# Altium footprint library SSW-126-01-G-D.PcbLib: 1 footprints
Each footprint in its own frame and in the unit in brackets; x right, y up, seen from the top. Pads: shape width x height; smd on the part's side, far side on the other; paste and mask are expansions set on the pad; w line width, h text height; cw(c..) or ccw(c..) is an arc to the next point about the centre after c.
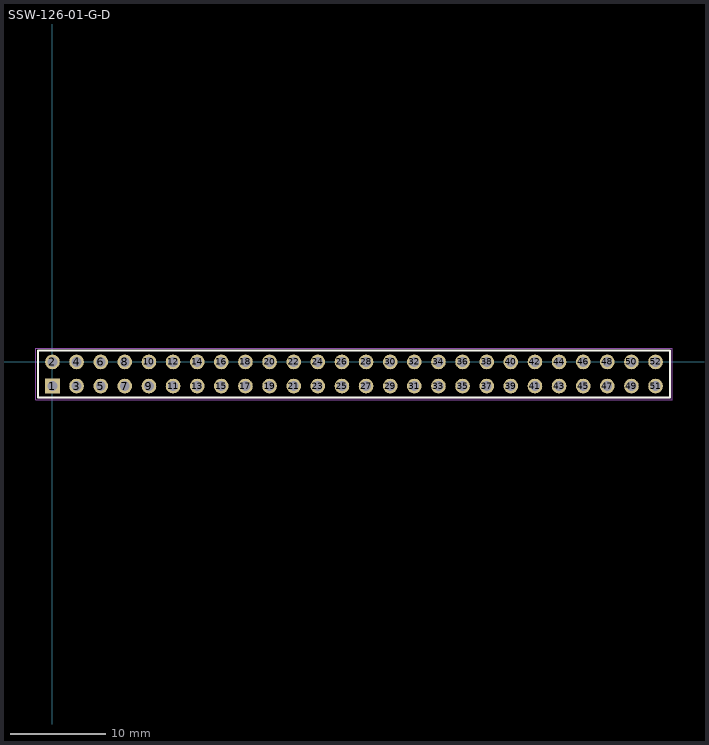
[diagram p0: the footprint, top view; thin cyan lines are the x and y axes]

## SSW-126-01-G-D [mm] "Elevated Socket, 2x26 Pins, Vertical, 2.54mm Pitch, Female"
height 8.51
pads (52):
  rect 1.55x1.55 hole 1.02: 1(0,-2.54)
  round 1.55 hole 1.02: 2(0,0) 3(2.54,-2.54) 4(2.54,0) 5(5.08,-2.54) 6(5.08,0) 7(7.62,-2.54) 8(7.62,0) 9(10.16,-2.54) 10(10.16,0) 11(12.7,-2.54) 12(12.7,0) 13(15.24,-2.54) 14(15.24,0) 15(17.78,-2.54) 16(17.78,0) 17(20.32,-2.54) 18(20.32,0) 19(22.86,-2.54) 20(22.86,0) 21(25.4,-2.54) 22(25.4,0) 23(27.94,-2.54) 24(27.94,0) 25(30.48,-2.54) 26(30.48,0) 27(33.02,-2.54) 28(33.02,0) 29(35.56,-2.54) 30(35.56,0) 31(38.1,-2.54) 32(38.1,0) 33(40.64,-2.54) 34(40.64,0) 35(43.18,-2.54) 36(43.18,0) 37(45.72,-2.54) 38(45.72,0) 39(48.26,-2.54) 40(48.26,0) 41(50.8,-2.54) 42(50.8,0) 43(53.34,-2.54) 44(53.34,0) 45(55.88,-2.54) 46(55.88,0) 47(58.42,-2.54) 48(58.42,0) 49(60.96,-2.54) 50(60.96,0) 51(63.5,-2.54) 52(63.5,0)
Top Overlay:
  lines w0.2: -1.525,-3.745 65.025,-3.745 65.025,1.205 -1.525,1.205 -1.525,-3.745
Mechanical 13:
  lines w0.1: -1.525,-3.745 -1.525,1.205 65.025,1.205 65.025,-3.745 -1.525,-3.745
Mechanical 15:
  lines w0.05: -1.75,-3.97 65.25,-3.97 65.25,1.43 -1.75,1.43 -1.75,-3.97
3D body "SSW-126-01-G-D.stp": height 8.51, standoff -2.64, extent -1.524,-3.746 65.024,1.207